# EAGLE library part 95.15.2 (library relay_finder_36_11)
P.C.B. socket suitable for the 40.51 & 40.52 & 40.61 relays
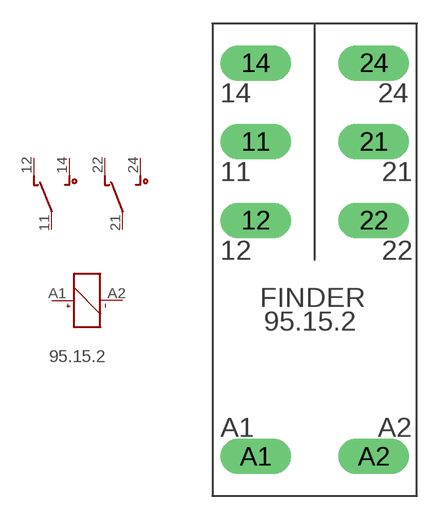
[diagram p0: symbol with the pads of 95.15.2; footprint 95.15.2]

Designator prefix RL

## 95.15.2  [95.15.2]
11  11  pas
12  12  pas
14  14  pas
21  21  pas
22  22  pas
24  24  pas
A1  A1  pas
A2  A2  pas

## Footprint 95.15.2 (pad centres in mm)
drill 1.5 long: 11 -3.75,7.5; 12 -3.75,2.5; 14 -3.75,12.5; 21 3.75,7.5; 22 3.75,2.5; 24 3.75,12.5; A1 -3.75,-12.5; A2 3.75,-12.5